# Altium integrated library TI_Logic_Flip-Flop,Latch,Register.IntLib: 2598 symbols (part 35 of 122)
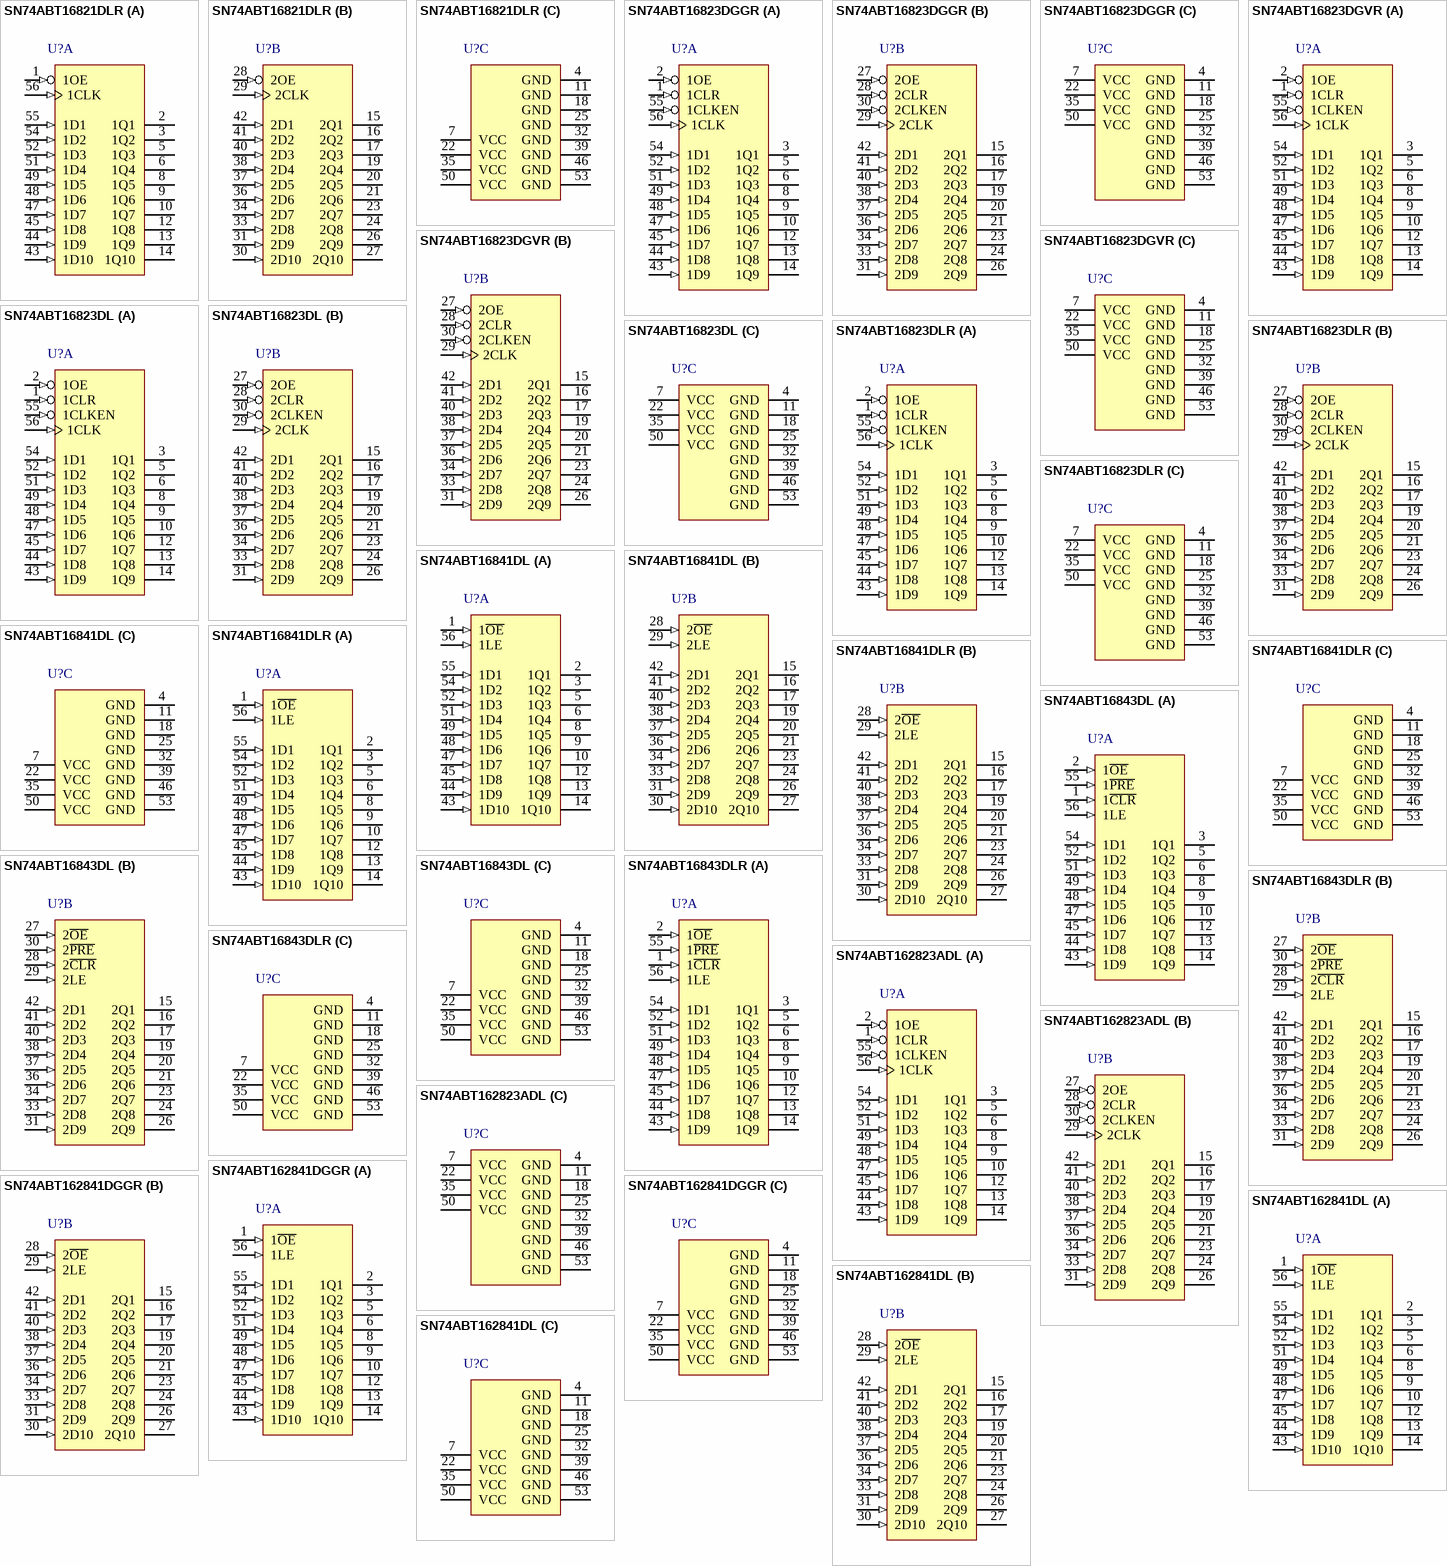
[diagram p173: symbols SN74ABT16821DLR to SN74ABT162841DL]

## SN74ABT16843DL
designator U?
18-Bit Bus-Interface D-Type Latches With 3-State Outputs, DL0056A, TUBE; Generic Part Number: SN74ABT16843; Manufacturer: Texas Instruments; PartNumber: SN74ABT16843DL; VCC(Min)(V): 4.5; VCC(Max)(V): 5.5; Output Type: TTL; Logic: True; Static Current: 42.75; ICC @ Nom Voltage(Max)(mA): 85; Bits(#): 18; F @ Nom Voltage(Max)(Mhz): 150; Rating: Catalog; Technology Family: ABT; Voltage(Nom)(V): 5; Schmitt Trigger: No; Output Drive (IOL/IOH)(Max)(mA): 64/-32; Output Logic: Non-inverted; 3-State Output: Yes; tpd @ Nom Voltage(Max)(ns): 4.8; DatasheetVersion: SCBS223E; PackageReference: DL0056A; Supplier 1: Digi-Key; Supplier Part Number 1: 296-33619-5-ND; Supplier 2: Mouser; Supplier Part Number 2: 595-SN74ABT16843DL; Input Type: TTL; Operating Temperature Range(C): -40 to 85; Code_JEDEC: MO-118; ComponentLink1Description: Manufacturer URL; ComponentLink1URL: http://www.ti.com/; ComponentLink2Description: Datasheet; ComponentLink2URL: http://www.ti.com/lit/ds/symlink/sn74abt16843.pdf; ComponentLink3Description: Package Specification; ComponentLink3URL: http://www.ti.com/lit/ml/mpds491/mpds491.pdf
footprint DL0056A_N (SOP, 56-Leads, Body 7.6x18.5mm, Pitch 0.635mm, IPC Medium Density)
footprint DL0056A_M (SOP, 56-Leads, Body 7.6x18.5mm, Pitch 0.635mm, IPC Low Density)
footprint DL0056A_L (SOP, 56-Leads, Body 7.6x18.5mm, Pitch 0.635mm, IPC High Density)
part A pins: 1 1~{CLR} (in), 2 1~{OE} (in), 3 1Q1 (hiz), 5 1Q2 (hiz), 6 1Q3 (hiz), 8 1Q4 (hiz), 9 1Q5 (hiz), 10 1Q6 (hiz), 12 1Q7 (hiz), 13 1Q8 (hiz), 14 1Q9 (hiz), 43 1D9 (in), 44 1D8 (in), 45 1D7 (in), 47 1D6 (in), 48 1D5 (in), 49 1D4 (in), 51 1D3 (in), 52 1D2 (in), 54 1D1 (in), 55 1~{PRE} (in), 56 1LE (in)
part B pins: 15 2Q1 (hiz), 16 2Q2 (hiz), 17 2Q3 (hiz), 19 2Q4 (hiz), 20 2Q5 (hiz), 21 2Q6 (hiz), 23 2Q7 (hiz), 24 2Q8 (hiz), 26 2Q9 (hiz), 27 2~{OE} (in), 28 2~{CLR} (in), 29 2LE (in), 30 2~{PRE} (in), 31 2D9 (in), 33 2D8 (in), 34 2D7 (in), 36 2D6 (in), 37 2D5 (in), 38 2D4 (in), 40 2D3 (in), 41 2D2 (in), 42 2D1 (in)
part C pins: 4 GND (power), 7 VCC (power), 11 GND (power), 18 GND (power), 22 VCC (power), 25 GND (power), 32 GND (power), 35 VCC (power), 39 GND (power), 46 GND (power), 50 VCC (power), 53 GND (power)

## SN74ABT16843DLR
designator U?
18-Bit Bus-Interface D-Type Latches With 3-State Outputs, DL0056A, LARGE T&R; Generic Part Number: SN74ABT16843; Manufacturer: Texas Instruments; PartNumber: SN74ABT16843DLR; VCC(Min)(V): 4.5; VCC(Max)(V): 5.5; Output Type: TTL; Logic: True; Static Current: 42.75; ICC @ Nom Voltage(Max)(mA): 85; Bits(#): 18; F @ Nom Voltage(Max)(Mhz): 150; Rating: Catalog; Technology Family: ABT; Voltage(Nom)(V): 5; Schmitt Trigger: No; Output Drive (IOL/IOH)(Max)(mA): 64/-32; Output Logic: Non-inverted; 3-State Output: Yes; tpd @ Nom Voltage(Max)(ns): 4.8; DatasheetVersion: SCBS223E; PackageReference: DL0056A; Supplier 1: Digi-Key; Supplier Part Number 1: 296-3932-2-ND; Supplier 2: Digi-Key; Supplier Part Number 2: 296-3932-1-ND; Supplier 3: Digi-Key; Supplier Part Number 3: 296-3932-6-ND; Supplier 4: Mouser; Supplier Part Number 4: 595-SN74ABT16843DLR; Input Type: TTL; Operating Temperature Range(C): -40 to 85; Code_JEDEC: MO-118; ComponentLink1Description: Manufacturer URL; ComponentLink1URL: http://www.ti.com/; ComponentLink2Description: Datasheet; ComponentLink2URL: http://www.ti.com/lit/ds/symlink/sn74abt16843.pdf; ComponentLink3Description: Package Specification; ComponentLink3URL: http://www.ti.com/lit/ml/mpds491/mpds491.pdf
footprint DL0056A_N (SOP, 56-Leads, Body 7.6x18.5mm, Pitch 0.635mm, IPC Medium Density)
footprint DL0056A_M (SOP, 56-Leads, Body 7.6x18.5mm, Pitch 0.635mm, IPC Low Density)
footprint DL0056A_L (SOP, 56-Leads, Body 7.6x18.5mm, Pitch 0.635mm, IPC High Density)
part A pins: 1 1~{CLR} (in), 2 1~{OE} (in), 3 1Q1 (hiz), 5 1Q2 (hiz), 6 1Q3 (hiz), 8 1Q4 (hiz), 9 1Q5 (hiz), 10 1Q6 (hiz), 12 1Q7 (hiz), 13 1Q8 (hiz), 14 1Q9 (hiz), 43 1D9 (in), 44 1D8 (in), 45 1D7 (in), 47 1D6 (in), 48 1D5 (in), 49 1D4 (in), 51 1D3 (in), 52 1D2 (in), 54 1D1 (in), 55 1~{PRE} (in), 56 1LE (in)
part B pins: 15 2Q1 (hiz), 16 2Q2 (hiz), 17 2Q3 (hiz), 19 2Q4 (hiz), 20 2Q5 (hiz), 21 2Q6 (hiz), 23 2Q7 (hiz), 24 2Q8 (hiz), 26 2Q9 (hiz), 27 2~{OE} (in), 28 2~{CLR} (in), 29 2LE (in), 30 2~{PRE} (in), 31 2D9 (in), 33 2D8 (in), 34 2D7 (in), 36 2D6 (in), 37 2D5 (in), 38 2D4 (in), 40 2D3 (in), 41 2D2 (in), 42 2D1 (in)
part C pins: 4 GND (power), 7 VCC (power), 11 GND (power), 18 GND (power), 22 VCC (power), 25 GND (power), 32 GND (power), 35 VCC (power), 39 GND (power), 46 GND (power), 50 VCC (power), 53 GND (power)

## SN74ABT162823ADL
designator U?
18-Bit Bus-Interface Flip-Flops With 3-State Outputs, DL0056A, TUBE; Generic Part Number: SN74ABT162823A; Manufacturer: Texas Instruments; PartNumber: SN74ABT162823ADL; VCC(Min)(V): 4.5; VCC(Max)(V): 5.5; Output Type: TTL; ICC @ Nom Voltage(Max)(mA): 80; Bits(#): 18; F @ Nom Voltage(Max)(Mhz): 150; Rating: Catalog; Technology Family: ABT; Voltage(Nom)(V): 5; Schmitt Trigger: No; Output Drive (IOL/IOH)(Max)(mA): 12/-12; Output Logic: Non-inverted; 3-State Output: Yes; tpd @ Nom Voltage(Max)(ns): 7.5; DatasheetVersion: SCBS666B; PackageReference: DL0056A; Supplier 1: Digi-Key; Supplier Part Number 1: SN74ABT162823ADL-ND; Supplier 2: Mouser; Supplier Part Number 2: 595-SN74ABT162823ADL; Input Type: TTL; Operating Temperature Range(C): -40 to 85; Code_JEDEC: MO-118; ComponentLink1Description: Manufacturer URL; ComponentLink1URL: http://www.ti.com/; ComponentLink2Description: Datasheet; ComponentLink2URL: http://www.ti.com/lit/ds/symlink/sn74abt162823a.pdf; ComponentLink3Description: Package Specification; ComponentLink3URL: http://www.ti.com/lit/ml/mpds491/mpds491.pdf
footprint DL0056A_N (SOP, 56-Leads, Body 7.6x18.5mm, Pitch 0.635mm, IPC Medium Density)
footprint DL0056A_M (SOP, 56-Leads, Body 7.6x18.5mm, Pitch 0.635mm, IPC Low Density)
footprint DL0056A_L (SOP, 56-Leads, Body 7.6x18.5mm, Pitch 0.635mm, IPC High Density)
part A pins: 1 1CLR (in) "Asynchronous Clear Inputs (Active LOW)", 2 1OE (in) "Output Enable Inputs (Active LOW)", 3 1Q1 (hiz) "Three-State Outputs", 5 1Q2 (hiz) "Three-State Outputs", 6 1Q3 (hiz) "Three-State Outputs", 8 1Q4 (hiz) "Three-State Outputs", 9 1Q5 (hiz) "Three-State Outputs", 10 1Q6 (hiz) "Three-State Outputs", 12 1Q7 (hiz) "Three-State Outputs", 13 1Q8 (hiz) "Three-State Outputs", 14 1Q9 (hiz) "Three-State Outputs", 43 1D9 (in) "Data Inputs", 44 1D8 (in) "Data Inputs", 45 1D7 (in) "Data Inputs", 47 1D6 (in) "Data Inputs", 48 1D5 (in) "Data Inputs", 49 1D4 (in) "Data Inputs", 51 1D3 (in) "Data Inputs", 52 1D2 (in) "Data Inputs", 54 1D1 (in) "Data Inputs", 55 1CLKEN (in) "Clock Enable Inputs (Active LOW)", 56 1CLK (in) "Clock Inputs"
part B pins: 15 2Q1 (hiz) "Three-State Outputs", 16 2Q2 (hiz) "Three-State Outputs", 17 2Q3 (hiz) "Three-State Outputs", 19 2Q4 (hiz) "Three-State Outputs", 20 2Q5 (hiz) "Three-State Outputs", 21 2Q6 (hiz) "Three-State Outputs", 23 2Q7 (hiz) "Three-State Outputs", 24 2Q8 (hiz) "Three-State Outputs", 26 2Q9 (hiz) "Three-State Outputs", 27 2OE (in) "Output Enable Inputs (Active LOW)", 28 2CLR (in) "Asynchronous Clear Inputs (Active LOW)", 29 2CLK (in) "Clock Inputs", 30 2CLKEN (in) "Clock Enable Inputs (Active LOW)", 31 2D9 (in) "Data Inputs", 33 2D8 (in) "Data Inputs", 34 2D7 (in) "Data Inputs", 36 2D6 (in) "Data Inputs", 37 2D5 (in) "Data Inputs", 38 2D4 (in) "Data Inputs", 40 2D3 (in) "Data Inputs", 41 2D2 (in) "Data Inputs", 42 2D1 (in) "Data Inputs"
part C pins: 4 GND (power), 7 VCC (power), 11 GND (power), 18 GND (power), 22 VCC (power), 25 GND (power), 32 GND (power), 35 VCC (power), 39 GND (power), 46 GND (power), 50 VCC (power), 53 GND (power)

## SN74ABT162841DGGR
designator U?
20-Bit Bus-Interface D-Type Latches With 3-State Outputs, DGG0056A, LARGE T&R; Generic Part Number: SN74ABT162841; Manufacturer: Texas Instruments; PartNumber: SN74ABT162841DGGR; VCC(Min)(V): 4.5; VCC(Max)(V): 5.5; Output Type: TTL; ICC @ Nom Voltage(Max)(mA): 89; Bits(#): 20; F @ Nom Voltage(Max)(Mhz): 150; Rating: Catalog; Technology Family: ABT; Voltage(Nom)(V): 5; Schmitt Trigger: No; Output Drive (IOL/IOH)(Max)(mA): 12/-12; Output Logic: Non-inverted; 3-State Output: Yes; tpd @ Nom Voltage(Max)(ns): 6; DatasheetVersion: SCBS665C; PackageReference: DGG0056A; Supplier 1: Digi-Key; Supplier Part Number 1: 296-3897-2-ND; Supplier 2: Digi-Key; Supplier Part Number 2: 296-3897-1-ND; Supplier 3: Digi-Key; Supplier Part Number 3: 296-3897-6-ND; Supplier 4: Mouser; Supplier Part Number 4: 595-SNABT162841DGGR; Input Type: TTL; Operating Temperature Range(C): -40 to 85; Code_JEDEC: MO-153; ComponentLink1Description: Manufacturer URL; ComponentLink1URL: http://www.ti.com/; ComponentLink2Description: Datasheet; ComponentLink2URL: http://www.ti.com/lit/ds/symlink/sn74abt162841.pdf; ComponentLink3Description: Package Specification; ComponentLink3URL: http://www.ti.com/lit/ml/mtss003d/mtss003d.pdf
footprint DGG0056A_N (TSSOP, 56-Leads, Body 14.1x6.2mm, Pitch 0.5mm, IPC Medium Density)
footprint DGG0056A_M (TSSOP, 56-Leads, Body 14.1x6.2mm, Pitch 0.5mm, IPC Low Density)
footprint DGG0056A_L (TSSOP, 56-Leads, Body 14.1x6.2mm, Pitch 0.5mm, IPC High Density)
part A pins: 1 1~{OE} (in) "Output Enable Input (Active LOW)", 2 1Q1 (hiz) "Three-State Outputs", 3 1Q2 (hiz) "Three-State Outputs", 5 1Q3 (hiz) "Three-State Outputs", 6 1Q4 (hiz) "Three-State Outputs", 8 1Q5 (hiz) "Three-State Outputs", 9 1Q6 (hiz) "Three-State Outputs", 10 1Q7 (hiz) "Three-State Outputs", 12 1Q8 (hiz) "Three-State Outputs", 13 1Q9 (hiz) "Three-State Outputs", 14 1Q10 (hiz) "Three-State Outputs", 43 1D10 (in) "Data Inputs", 44 1D9 (in) "Data Inputs", 45 1D8 (in) "Data Inputs", 47 1D7 (in) "Data Inputs", 48 1D6 (in) "Data Inputs", 49 1D5 (in) "Data Inputs", 51 1D4 (in) "Data Inputs", 52 1D3 (in) "Data Inputs", 54 1D2 (in) "Data Inputs", 55 1D1 (in) "Data Inputs", 56 1LE (in) "Latch Enable Input (Active HIGH)"
part B pins: 15 2Q1 (hiz) "Three-State Outputs", 16 2Q2 (hiz) "Three-State Outputs", 17 2Q3 (hiz) "Three-State Outputs", 19 2Q4 (hiz) "Three-State Outputs", 20 2Q5 (hiz) "Three-State Outputs", 21 2Q6 (hiz) "Three-State Outputs", 23 2Q7 (hiz) "Three-State Outputs", 24 2Q8 (hiz) "Three-State Outputs", 26 2Q9 (hiz) "Three-State Outputs", 27 2Q10 (hiz) "Three-State Outputs", 28 2~{OE} (in) "Output Enable Input (Active LOW)", 29 2LE (in) "Latch Enable Input (Active HIGH)", 30 2D10 (in) "Data Inputs", 31 2D9 (in) "Data Inputs", 33 2D8 (in) "Data Inputs", 34 2D7 (in) "Data Inputs", 36 2D6 (in) "Data Inputs", 37 2D5 (in) "Data Inputs", 38 2D4 (in) "Data Inputs", 40 2D3 (in) "Data Inputs", 41 2D2 (in) "Data Inputs", 42 2D1 (in) "Data Inputs"
part C pins: 4 GND (power), 7 VCC (power), 11 GND (power), 18 GND (power), 22 VCC (power), 25 GND (power), 32 GND (power), 35 VCC (power), 39 GND (power), 46 GND (power), 50 VCC (power), 53 GND (power)

## SN74ABT162841DL
designator U?
20-Bit Bus-Interface D-Type Latches With 3-State Outputs, DL0056A, TUBE; Generic Part Number: SN74ABT162841; Manufacturer: Texas Instruments; PartNumber: SN74ABT162841DL; VCC(Min)(V): 4.5; VCC(Max)(V): 5.5; Output Type: TTL; ICC @ Nom Voltage(Max)(mA): 89; Bits(#): 20; F @ Nom Voltage(Max)(Mhz): 150; Rating: Catalog; Technology Family: ABT; Voltage(Nom)(V): 5; Schmitt Trigger: No; Output Drive (IOL/IOH)(Max)(mA): 12/-12; Output Logic: Non-inverted; 3-State Output: Yes; tpd @ Nom Voltage(Max)(ns): 6; DatasheetVersion: SCBS665C; PackageReference: DL0056A; Supplier 1: Digi-Key; Supplier Part Number 1: 296-3898-5-ND; Supplier 2: Mouser; Supplier Part Number 2: 595-SN74ABT162841DL; Input Type: TTL; Operating Temperature Range(C): -40 to 85; Code_JEDEC: MO-118; ComponentLink1Description: Manufacturer URL; ComponentLink1URL: http://www.ti.com/; ComponentLink2Description: Datasheet; ComponentLink2URL: http://www.ti.com/lit/ds/symlink/sn74abt162841.pdf; ComponentLink3Description: Package Specification; ComponentLink3URL: http://www.ti.com/lit/ml/mpds491/mpds491.pdf
footprint DL0056A_N (SOP, 56-Leads, Body 7.6x18.5mm, Pitch 0.635mm, IPC Medium Density)
footprint DL0056A_M (SOP, 56-Leads, Body 7.6x18.5mm, Pitch 0.635mm, IPC Low Density)
footprint DL0056A_L (SOP, 56-Leads, Body 7.6x18.5mm, Pitch 0.635mm, IPC High Density)
part A pins: 1 1~{OE} (in) "Output Enable Input (Active LOW)", 2 1Q1 (hiz) "Three-State Outputs", 3 1Q2 (hiz) "Three-State Outputs", 5 1Q3 (hiz) "Three-State Outputs", 6 1Q4 (hiz) "Three-State Outputs", 8 1Q5 (hiz) "Three-State Outputs", 9 1Q6 (hiz) "Three-State Outputs", 10 1Q7 (hiz) "Three-State Outputs", 12 1Q8 (hiz) "Three-State Outputs", 13 1Q9 (hiz) "Three-State Outputs", 14 1Q10 (hiz) "Three-State Outputs", 43 1D10 (in) "Data Inputs", 44 1D9 (in) "Data Inputs", 45 1D8 (in) "Data Inputs", 47 1D7 (in) "Data Inputs", 48 1D6 (in) "Data Inputs", 49 1D5 (in) "Data Inputs", 51 1D4 (in) "Data Inputs", 52 1D3 (in) "Data Inputs", 54 1D2 (in) "Data Inputs", 55 1D1 (in) "Data Inputs", 56 1LE (in) "Latch Enable Input (Active HIGH)"
part B pins: 15 2Q1 (hiz) "Three-State Outputs", 16 2Q2 (hiz) "Three-State Outputs", 17 2Q3 (hiz) "Three-State Outputs", 19 2Q4 (hiz) "Three-State Outputs", 20 2Q5 (hiz) "Three-State Outputs", 21 2Q6 (hiz) "Three-State Outputs", 23 2Q7 (hiz) "Three-State Outputs", 24 2Q8 (hiz) "Three-State Outputs", 26 2Q9 (hiz) "Three-State Outputs", 27 2Q10 (hiz) "Three-State Outputs", 28 2~{OE} (in) "Output Enable Input (Active LOW)", 29 2LE (in) "Latch Enable Input (Active HIGH)", 30 2D10 (in) "Data Inputs", 31 2D9 (in) "Data Inputs", 33 2D8 (in) "Data Inputs", 34 2D7 (in) "Data Inputs", 36 2D6 (in) "Data Inputs", 37 2D5 (in) "Data Inputs", 38 2D4 (in) "Data Inputs", 40 2D3 (in) "Data Inputs", 41 2D2 (in) "Data Inputs", 42 2D1 (in) "Data Inputs"
part C pins: 4 GND (power), 7 VCC (power), 11 GND (power), 18 GND (power), 22 VCC (power), 25 GND (power), 32 GND (power), 35 VCC (power), 39 GND (power), 46 GND (power), 50 VCC (power), 53 GND (power)

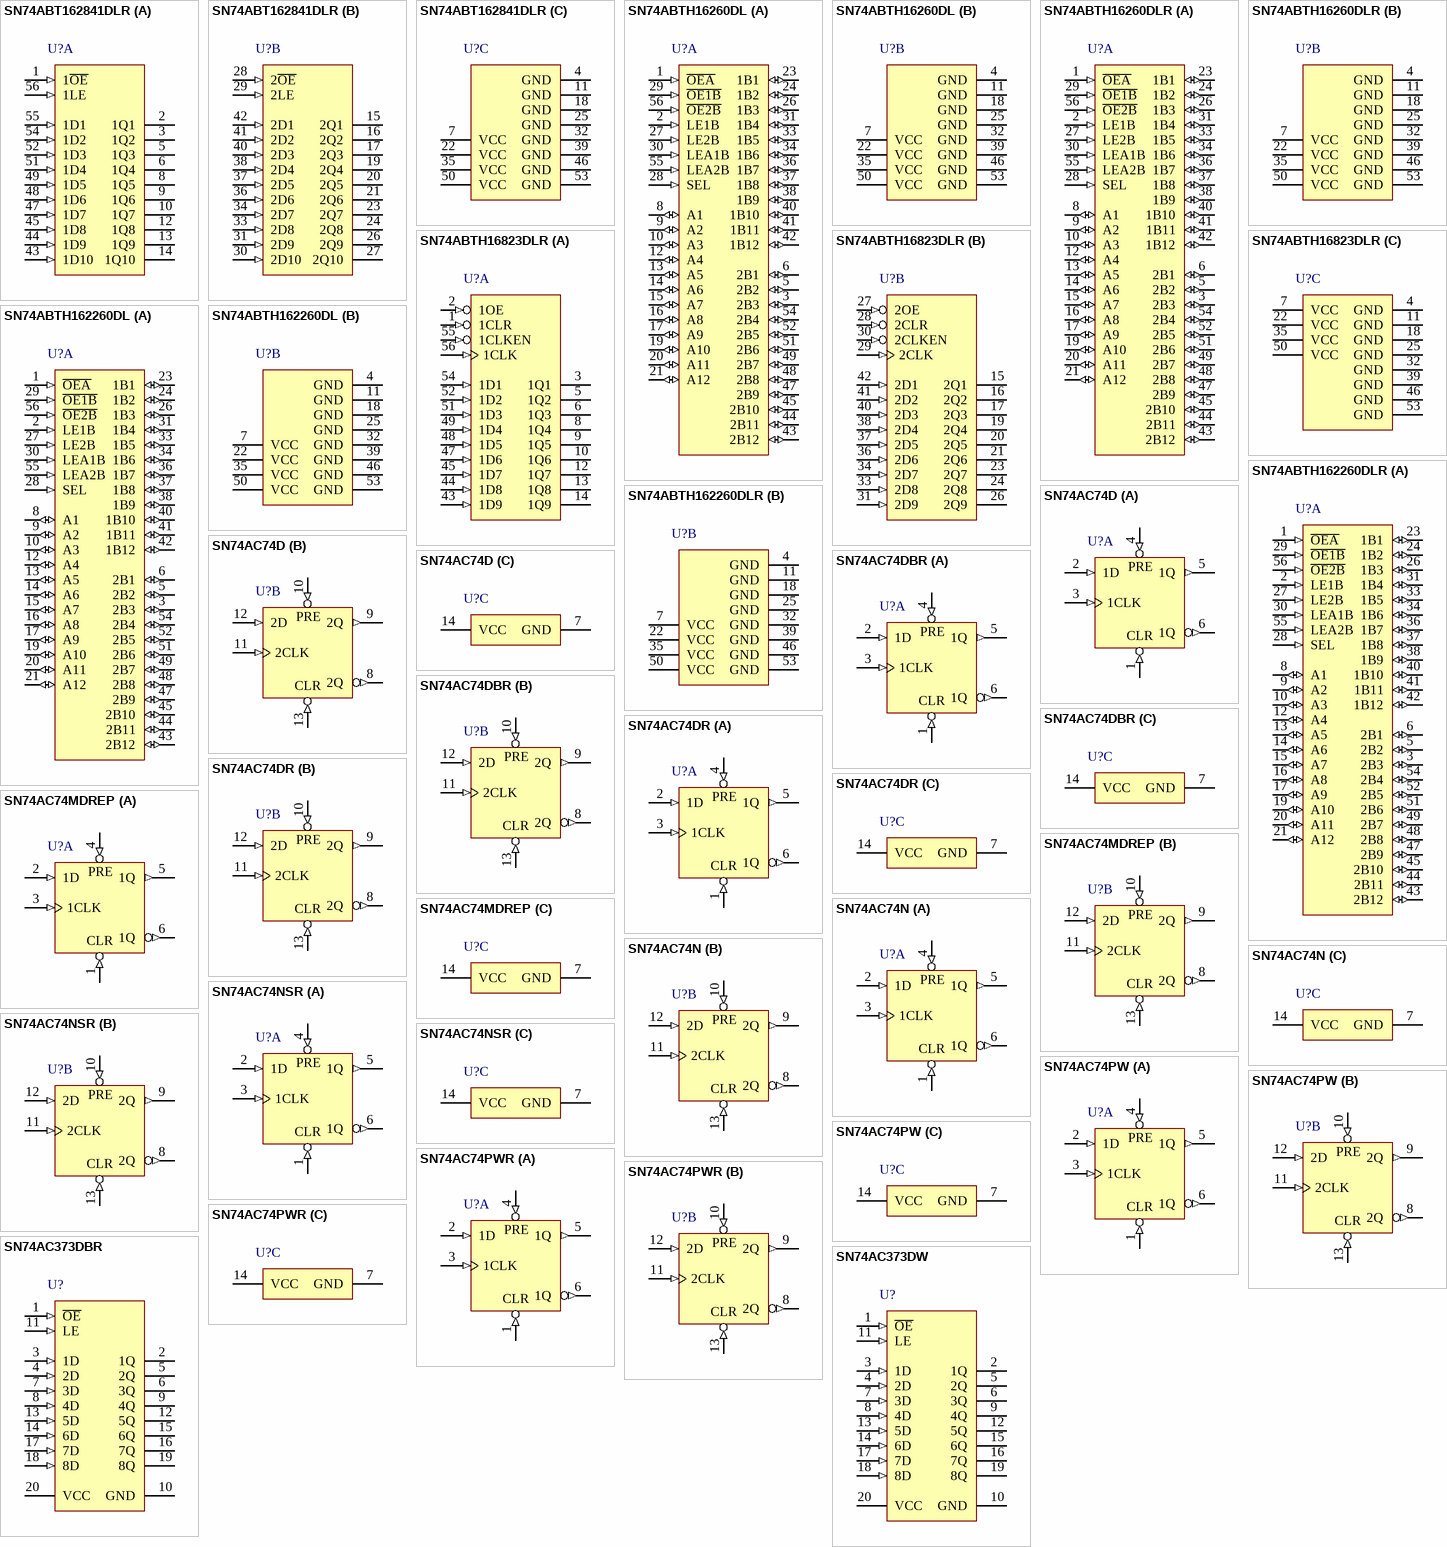
[diagram p47: symbols SN74ABT162841DLR to SN74AC373DW]

## SN74ABT162841DLR
designator U?
20-Bit Bus-Interface D-Type Latches With 3-State Outputs, DL0056A, LARGE T&R; Generic Part Number: SN74ABT162841; Manufacturer: Texas Instruments; PartNumber: SN74ABT162841DLR; VCC(Min)(V): 4.5; VCC(Max)(V): 5.5; Output Type: TTL; ICC @ Nom Voltage(Max)(mA): 89; Bits(#): 20; F @ Nom Voltage(Max)(Mhz): 150; Rating: Catalog; Technology Family: ABT; Voltage(Nom)(V): 5; Schmitt Trigger: No; Output Drive (IOL/IOH)(Max)(mA): 12/-12; Output Logic: Non-inverted; 3-State Output: Yes; tpd @ Nom Voltage(Max)(ns): 6; DatasheetVersion: SCBS665C; PackageReference: DL0056A; Supplier 1: Digi-Key; Supplier Part Number 1: 296-38212-2-ND; Supplier 2: Digi-Key; Supplier Part Number 2: 296-38212-1-ND; Supplier 3: Digi-Key; Supplier Part Number 3: 296-38212-6-ND; Supplier 4: Mouser; Supplier Part Number 4: 595-SN74ABT162841DLR; Input Type: TTL; Operating Temperature Range(C): -40 to 85; Code_JEDEC: MO-118; ComponentLink1Description: Manufacturer URL; ComponentLink1URL: http://www.ti.com/; ComponentLink2Description: Datasheet; ComponentLink2URL: http://www.ti.com/lit/ds/symlink/sn74abt162841.pdf; ComponentLink3Description: Package Specification; ComponentLink3URL: http://www.ti.com/lit/ml/mpds491/mpds491.pdf
footprint DL0056A_N (SOP, 56-Leads, Body 7.6x18.5mm, Pitch 0.635mm, IPC Medium Density)
footprint DL0056A_M (SOP, 56-Leads, Body 7.6x18.5mm, Pitch 0.635mm, IPC Low Density)
footprint DL0056A_L (SOP, 56-Leads, Body 7.6x18.5mm, Pitch 0.635mm, IPC High Density)
part A pins: 1 1~{OE} (in) "Output Enable Input (Active LOW)", 2 1Q1 (hiz) "Three-State Outputs", 3 1Q2 (hiz) "Three-State Outputs", 5 1Q3 (hiz) "Three-State Outputs", 6 1Q4 (hiz) "Three-State Outputs", 8 1Q5 (hiz) "Three-State Outputs", 9 1Q6 (hiz) "Three-State Outputs", 10 1Q7 (hiz) "Three-State Outputs", 12 1Q8 (hiz) "Three-State Outputs", 13 1Q9 (hiz) "Three-State Outputs", 14 1Q10 (hiz) "Three-State Outputs", 43 1D10 (in) "Data Inputs", 44 1D9 (in) "Data Inputs", 45 1D8 (in) "Data Inputs", 47 1D7 (in) "Data Inputs", 48 1D6 (in) "Data Inputs", 49 1D5 (in) "Data Inputs", 51 1D4 (in) "Data Inputs", 52 1D3 (in) "Data Inputs", 54 1D2 (in) "Data Inputs", 55 1D1 (in) "Data Inputs", 56 1LE (in) "Latch Enable Input (Active HIGH)"
part B pins: 15 2Q1 (hiz) "Three-State Outputs", 16 2Q2 (hiz) "Three-State Outputs", 17 2Q3 (hiz) "Three-State Outputs", 19 2Q4 (hiz) "Three-State Outputs", 20 2Q5 (hiz) "Three-State Outputs", 21 2Q6 (hiz) "Three-State Outputs", 23 2Q7 (hiz) "Three-State Outputs", 24 2Q8 (hiz) "Three-State Outputs", 26 2Q9 (hiz) "Three-State Outputs", 27 2Q10 (hiz) "Three-State Outputs", 28 2~{OE} (in) "Output Enable Input (Active LOW)", 29 2LE (in) "Latch Enable Input (Active HIGH)", 30 2D10 (in) "Data Inputs", 31 2D9 (in) "Data Inputs", 33 2D8 (in) "Data Inputs", 34 2D7 (in) "Data Inputs", 36 2D6 (in) "Data Inputs", 37 2D5 (in) "Data Inputs", 38 2D4 (in) "Data Inputs", 40 2D3 (in) "Data Inputs", 41 2D2 (in) "Data Inputs", 42 2D1 (in) "Data Inputs"
part C pins: 4 GND (power), 7 VCC (power), 11 GND (power), 18 GND (power), 22 VCC (power), 25 GND (power), 32 GND (power), 35 VCC (power), 39 GND (power), 46 GND (power), 50 VCC (power), 53 GND (power)

## SN74ABTH16260DL
designator U?
12-Bit To 24-Bit Multiplexed D-Type Latches With 3-State Outputs, DL0056A, TUBE; Generic Part Number: SN74ABTH16260; Manufacturer: Texas Instruments; PartNumber: SN74ABTH16260DL; VCC(Min)(V): 4.5; VCC(Max)(V): 5.5; Output Type: TTL; ICC @ Nom Voltage(Max)(mA): 63; Bits(#): 12; F @ Nom Voltage(Max)(Mhz): 150; Rating: Catalog; Technology Family: ABT; Voltage(Nom)(V): 5; Schmitt Trigger: No; Output Drive (IOL/IOH)(Max)(mA): 64/-32; Output Logic: Non-inverted; 3-State Output: Yes; tpd @ Nom Voltage(Max)(ns): 5.9; DatasheetVersion: SCBS204C; PackageReference: DL0056A; Supplier 1: Digi-Key; Supplier Part Number 1: 296-1446-5-ND; Supplier 2: Mouser; Supplier Part Number 2: 595-SN74ABTH16260DL; Input Type: TTL; Operating Temperature Range(C): -40 to 85; Code_JEDEC: MO-118; ComponentLink1Description: Manufacturer URL; ComponentLink1URL: http://www.ti.com/; ComponentLink2Description: Datasheet; ComponentLink2URL: http://www.ti.com/lit/ds/symlink/sn74abth16260.pdf; ComponentLink3Description: Package Specification; ComponentLink3URL: http://www.ti.com/lit/ml/mpds491/mpds491.pdf
footprint DL0056A_N (SOP, 56-Leads, Body 7.6x18.5mm, Pitch 0.635mm, IPC Medium Density)
footprint DL0056A_M (SOP, 56-Leads, Body 7.6x18.5mm, Pitch 0.635mm, IPC Low Density)
footprint DL0056A_L (SOP, 56-Leads, Body 7.6x18.5mm, Pitch 0.635mm, IPC High Density)
part A pins: 1 ~{OEA} (in), 2 LE1B (in), 3 2B3 (io), 5 2B2 (io), 6 2B1 (io), 8 A1 (io), 9 A2 (io), 10 A3 (io), 12 A4 (io), 13 A5 (io), 14 A6 (io), 15 A7 (io), 16 A8 (io), 17 A9 (io), 19 A10 (io), 20 A11 (io), 21 A12 (io), 23 1B1 (io), 24 1B2 (io), 26 1B3 (io), 27 LE2B (in), 28 SEL (in), 29 ~{OE1B} (in), 30 LEA1B (in), 31 1B4 (io), 33 1B5 (io), 34 1B6 (io), 36 1B7 (io), 37 1B8 (io), 38 1B9 (io), 40 1B10 (io), 41 1B11 (io), 42 1B12 (io), 43 2B12 (io), 44 2B11 (io), 45 2B10 (io), 47 2B9 (io), 48 2B8 (io), 49 2B7 (io), 51 2B6 (io), 52 2B5 (io), 54 2B4 (io), 55 LEA2B (in), 56 ~{OE2B} (in)
part B pins: 4 GND (power), 7 VCC (power), 11 GND (power), 18 GND (power), 22 VCC (power), 25 GND (power), 32 GND (power), 35 VCC (power), 39 GND (power), 46 GND (power), 50 VCC (power), 53 GND (power)

## SN74ABTH16260DLR
designator U?
12-Bit To 24-Bit Multiplexed D-Type Latches With 3-State Outputs, DL0056A, LARGE T&R; Generic Part Number: SN74ABTH16260; Manufacturer: Texas Instruments; PartNumber: SN74ABTH16260DLR; VCC(Min)(V): 4.5; VCC(Max)(V): 5.5; Output Type: TTL; ICC @ Nom Voltage(Max)(mA): 63; Bits(#): 12; F @ Nom Voltage(Max)(Mhz): 150; Rating: Catalog; Technology Family: ABT; Voltage(Nom)(V): 5; Schmitt Trigger: No; Output Drive (IOL/IOH)(Max)(mA): 64/-32; Output Logic: Non-inverted; 3-State Output: Yes; tpd @ Nom Voltage(Max)(ns): 5.9; DatasheetVersion: SCBS204C; PackageReference: DL0056A; Supplier 1: Digi-Key; Supplier Part Number 1: 296-1446-2-ND; Supplier 2: Digi-Key; Supplier Part Number 2: 296-1446-1-ND; Supplier 3: Digi-Key; Supplier Part Number 3: 296-1446-6-ND; Supplier 4: Mouser; Supplier Part Number 4: 595-SN74ABTH16260DLR; Input Type: TTL; Operating Temperature Range(C): -40 to 85; Code_JEDEC: MO-118; ComponentLink1Description: Manufacturer URL; ComponentLink1URL: http://www.ti.com/; ComponentLink2Description: Datasheet; ComponentLink2URL: http://www.ti.com/lit/ds/symlink/sn74abth16260.pdf; ComponentLink3Description: Package Specification; ComponentLink3URL: http://www.ti.com/lit/ml/mpds491/mpds491.pdf
footprint DL0056A_N (SOP, 56-Leads, Body 7.6x18.5mm, Pitch 0.635mm, IPC Medium Density)
footprint DL0056A_M (SOP, 56-Leads, Body 7.6x18.5mm, Pitch 0.635mm, IPC Low Density)
footprint DL0056A_L (SOP, 56-Leads, Body 7.6x18.5mm, Pitch 0.635mm, IPC High Density)
part A pins: 1 ~{OEA} (in), 2 LE1B (in), 3 2B3 (io), 5 2B2 (io), 6 2B1 (io), 8 A1 (io), 9 A2 (io), 10 A3 (io), 12 A4 (io), 13 A5 (io), 14 A6 (io), 15 A7 (io), 16 A8 (io), 17 A9 (io), 19 A10 (io), 20 A11 (io), 21 A12 (io), 23 1B1 (io), 24 1B2 (io), 26 1B3 (io), 27 LE2B (in), 28 SEL (in), 29 ~{OE1B} (in), 30 LEA1B (in), 31 1B4 (io), 33 1B5 (io), 34 1B6 (io), 36 1B7 (io), 37 1B8 (io), 38 1B9 (io), 40 1B10 (io), 41 1B11 (io), 42 1B12 (io), 43 2B12 (io), 44 2B11 (io), 45 2B10 (io), 47 2B9 (io), 48 2B8 (io), 49 2B7 (io), 51 2B6 (io), 52 2B5 (io), 54 2B4 (io), 55 LEA2B (in), 56 ~{OE2B} (in)
part B pins: 4 GND (power), 7 VCC (power), 11 GND (power), 18 GND (power), 22 VCC (power), 25 GND (power), 32 GND (power), 35 VCC (power), 39 GND (power), 46 GND (power), 50 VCC (power), 53 GND (power)

## SN74ABTH16823DLR
designator U?
18-Bit Bus-Interface Flip-Flops With 3-State Outputs, DL0056A, LARGE T&R; Generic Part Number: SN74ABTH16823; Manufacturer: Texas Instruments; PartNumber: SN74ABTH16823DLR; VCC(Min)(V): 4.5; VCC(Max)(V): 5.5; Output Type: TTL; ICC @ Nom Voltage(Max)(mA): 80; Bits(#): 18; F @ Nom Voltage(Max)(Mhz): 150; Rating: Catalog; Technology Family: ABT; Voltage(Nom)(V): 5; Schmitt Trigger: No; Output Drive (IOL/IOH)(Max)(mA): 64/-32; Output Logic: Non-inverted; 3-State Output: Yes; tpd @ Nom Voltage(Max)(ns): 6.8; DatasheetVersion: SCBS664B; PackageReference: DL0056A; Supplier 1: Digi-Key; Supplier Part Number 1: 296-4130-2-ND; Supplier 2: Digi-Key; Supplier Part Number 2: 296-4130-1-ND; Supplier 3: Digi-Key; Supplier Part Number 3: 296-4130-6-ND; Supplier 4: Mouser; Supplier Part Number 4: 595-SN74ABTH16823DLR; Input Type: TTL; Operating Temperature Range(C): -40 to 85; Code_JEDEC: MO-118; ComponentLink1Description: Manufacturer URL; ComponentLink1URL: http://www.ti.com/; ComponentLink2Description: Datasheet; ComponentLink2URL: http://www.ti.com/lit/ds/symlink/sn74abth16823.pdf; ComponentLink3Description: Package Specification; ComponentLink3URL: http://www.ti.com/lit/ml/mpds491/mpds491.pdf
footprint DL0056A_N (SOP, 56-Leads, Body 7.6x18.5mm, Pitch 0.635mm, IPC Medium Density)
footprint DL0056A_M (SOP, 56-Leads, Body 7.6x18.5mm, Pitch 0.635mm, IPC Low Density)
footprint DL0056A_L (SOP, 56-Leads, Body 7.6x18.5mm, Pitch 0.635mm, IPC High Density)
part A pins: 1 1CLR (in) "Asynchronous Clear Inputs (Active LOW)", 2 1OE (in) "Output Enable Inputs (Active LOW)", 3 1Q1 (hiz) "Three-State Outputs", 5 1Q2 (hiz) "Three-State Outputs", 6 1Q3 (hiz) "Three-State Outputs", 8 1Q4 (hiz) "Three-State Outputs", 9 1Q5 (hiz) "Three-State Outputs", 10 1Q6 (hiz) "Three-State Outputs", 12 1Q7 (hiz) "Three-State Outputs", 13 1Q8 (hiz) "Three-State Outputs", 14 1Q9 (hiz) "Three-State Outputs", 43 1D9 (in) "Data Inputs", 44 1D8 (in) "Data Inputs", 45 1D7 (in) "Data Inputs", 47 1D6 (in) "Data Inputs", 48 1D5 (in) "Data Inputs", 49 1D4 (in) "Data Inputs", 51 1D3 (in) "Data Inputs", 52 1D2 (in) "Data Inputs", 54 1D1 (in) "Data Inputs", 55 1CLKEN (in) "Clock Enable Inputs (Active LOW)", 56 1CLK (in) "Clock Inputs"
part B pins: 15 2Q1 (hiz) "Three-State Outputs", 16 2Q2 (hiz) "Three-State Outputs", 17 2Q3 (hiz) "Three-State Outputs", 19 2Q4 (hiz) "Three-State Outputs", 20 2Q5 (hiz) "Three-State Outputs", 21 2Q6 (hiz) "Three-State Outputs", 23 2Q7 (hiz) "Three-State Outputs", 24 2Q8 (hiz) "Three-State Outputs", 26 2Q9 (hiz) "Three-State Outputs", 27 2OE (in) "Output Enable Inputs (Active LOW)", 28 2CLR (in) "Asynchronous Clear Inputs (Active LOW)", 29 2CLK (in) "Clock Inputs", 30 2CLKEN (in) "Clock Enable Inputs (Active LOW)", 31 2D9 (in) "Data Inputs", 33 2D8 (in) "Data Inputs", 34 2D7 (in) "Data Inputs", 36 2D6 (in) "Data Inputs", 37 2D5 (in) "Data Inputs", 38 2D4 (in) "Data Inputs", 40 2D3 (in) "Data Inputs", 41 2D2 (in) "Data Inputs", 42 2D1 (in) "Data Inputs"
part C pins: 4 GND (power), 7 VCC (power), 11 GND (power), 18 GND (power), 22 VCC (power), 25 GND (power), 32 GND (power), 35 VCC (power), 39 GND (power), 46 GND (power), 50 VCC (power), 53 GND (power)

## SN74ABTH162260DL
designator U?
12-Bit to 24-Bit Multiplexed D-Type Latches With Series-Damping Resistors And 3-State Outputs, DL0056A, TUBE; Generic Part Number: SN74ABTH162260; Manufacturer: Texas Instruments; PartNumber: SN74ABTH162260DL; VCC(Min)(V): 4.5; VCC(Max)(V): 5.5; Output Type: TTL; ICC @ Nom Voltage(Max)(mA): 63; Bits(#): 12; F @ Nom Voltage(Max)(Mhz): 150; Rating: Catalog; Technology Family: ABT; Voltage(Nom)(V): 5; Schmitt Trigger: No; Output Drive (IOL/IOH)(Max)(mA): 64/-32; Output Logic: Non-inverted; 3-State Output: Yes; tpd @ Nom Voltage(Max)(ns): 7.2; DatasheetVersion: SCBS240D; PackageReference: DL0056A; Supplier 1: Digi-Key; Supplier Part Number 1: 296-33635-5-ND; Supplier 2: Farnell; Supplier Part Number 2: 1741593; Supplier 3: Mouser; Supplier Part Number 3: 595-SN74ABTH162260DL; Input Type: TTL; Operating Temperature Range(C): -40 to 85; Code_JEDEC: MO-118; ComponentLink1Description: Manufacturer URL; ComponentLink1URL: http://www.ti.com/; ComponentLink2Description: Datasheet; ComponentLink2URL: http://www.ti.com/lit/ds/symlink/sn74abth162260.pdf; ComponentLink3Description: Package Specification; ComponentLink3URL: http://www.ti.com/lit/ml/mpds491/mpds491.pdf
footprint DL0056A_N (SOP, 56-Leads, Body 7.6x18.5mm, Pitch 0.635mm, IPC Medium Density)
footprint DL0056A_M (SOP, 56-Leads, Body 7.6x18.5mm, Pitch 0.635mm, IPC Low Density)
footprint DL0056A_L (SOP, 56-Leads, Body 7.6x18.5mm, Pitch 0.635mm, IPC High Density)
part A pins: 1 ~{OEA} (in), 2 LE1B (in), 3 2B3 (io), 5 2B2 (io), 6 2B1 (io), 8 A1 (io), 9 A2 (io), 10 A3 (io), 12 A4 (io), 13 A5 (io), 14 A6 (io), 15 A7 (io), 16 A8 (io), 17 A9 (io), 19 A10 (io), 20 A11 (io), 21 A12 (io), 23 1B1 (io), 24 1B2 (io), 26 1B3 (io), 27 LE2B (in), 28 SEL (in), 29 ~{OE1B} (in), 30 LEA1B (in), 31 1B4 (io), 33 1B5 (io), 34 1B6 (io), 36 1B7 (io), 37 1B8 (io), 38 1B9 (io), 40 1B10 (io), 41 1B11 (io), 42 1B12 (io), 43 2B12 (io), 44 2B11 (io), 45 2B10 (io), 47 2B9 (io), 48 2B8 (io), 49 2B7 (io), 51 2B6 (io), 52 2B5 (io), 54 2B4 (io), 55 LEA2B (in), 56 ~{OE2B} (in)
part B pins: 4 GND (power), 7 VCC (power), 11 GND (power), 18 GND (power), 22 VCC (power), 25 GND (power), 32 GND (power), 35 VCC (power), 39 GND (power), 46 GND (power), 50 VCC (power), 53 GND (power)

## SN74ABTH162260DLR
designator U?
12-Bit to 24-Bit Multiplexed D-Type Latches With Series-Damping Resistors And 3-State Outputs, DL0056A, LARGE T&R; Generic Part Number: SN74ABTH162260; Manufacturer: Texas Instruments; PartNumber: SN74ABTH162260DLR; VCC(Min)(V): 4.5; VCC(Max)(V): 5.5; Output Type: TTL; ICC @ Nom Voltage(Max)(mA): 63; Bits(#): 12; F @ Nom Voltage(Max)(Mhz): 150; Rating: Catalog; Technology Family: ABT; Voltage(Nom)(V): 5; Schmitt Trigger: No; Output Drive (IOL/IOH)(Max)(mA): 64/-32; Output Logic: Non-inverted; 3-State Output: Yes; tpd @ Nom Voltage(Max)(ns): 7.2; DatasheetVersion: SCBS240D; PackageReference: DL0056A; Supplier 1: Digi-Key; Supplier Part Number 1: 296-1051-2-ND; Supplier 2: Digi-Key; Supplier Part Number 2: 296-1051-1-ND; Supplier 3: Digi-Key; Supplier Part Number 3: 296-1051-6-ND; Supplier 4: Mouser; Supplier Part Number 4: 595-74ABTH162260DLR; Input Type: TTL; Operating Temperature Range(C): -40 to 85; Code_JEDEC: MO-118; ComponentLink1Description: Manufacturer URL; ComponentLink1URL: http://www.ti.com/; ComponentLink2Description: Datasheet; ComponentLink2URL: http://www.ti.com/lit/ds/symlink/sn74abth162260.pdf; ComponentLink3Description: Package Specification; ComponentLink3URL: http://www.ti.com/lit/ml/mpds491/mpds491.pdf
footprint DL0056A_N (SOP, 56-Leads, Body 7.6x18.5mm, Pitch 0.635mm, IPC Medium Density)
footprint DL0056A_M (SOP, 56-Leads, Body 7.6x18.5mm, Pitch 0.635mm, IPC Low Density)
footprint DL0056A_L (SOP, 56-Leads, Body 7.6x18.5mm, Pitch 0.635mm, IPC High Density)
part A pins: 1 ~{OEA} (in), 2 LE1B (in), 3 2B3 (io), 5 2B2 (io), 6 2B1 (io), 8 A1 (io), 9 A2 (io), 10 A3 (io), 12 A4 (io), 13 A5 (io), 14 A6 (io), 15 A7 (io), 16 A8 (io), 17 A9 (io), 19 A10 (io), 20 A11 (io), 21 A12 (io), 23 1B1 (io), 24 1B2 (io), 26 1B3 (io), 27 LE2B (in), 28 SEL (in), 29 ~{OE1B} (in), 30 LEA1B (in), 31 1B4 (io), 33 1B5 (io), 34 1B6 (io), 36 1B7 (io), 37 1B8 (io), 38 1B9 (io), 40 1B10 (io), 41 1B11 (io), 42 1B12 (io), 43 2B12 (io), 44 2B11 (io), 45 2B10 (io), 47 2B9 (io), 48 2B8 (io), 49 2B7 (io), 51 2B6 (io), 52 2B5 (io), 54 2B4 (io), 55 LEA2B (in), 56 ~{OE2B} (in)
part B pins: 4 GND (power), 7 VCC (power), 11 GND (power), 18 GND (power), 22 VCC (power), 25 GND (power), 32 GND (power), 35 VCC (power), 39 GND (power), 46 GND (power), 50 VCC (power), 53 GND (power)

## SN74AC74D
designator U?
Dual Positive-Edge-Triggered D-Type Flip-Flops With Clear and Preset, D0014A, TUBE; Generic Part Number: SN74AC74; Manufacturer: Texas Instruments; PartNumber: SN74AC74D; VCC(Min)(V): 2; VCC(Max)(V): 6; Output Type: CMOS; Output: 3S; ICC @ Nom Voltage(Max)(mA): 0.02; F @ Nom Voltage(Max)(Mhz): 100; Rating: Catalog; Technology Family: AC; Voltage(Nom)(V): 3.3,5; Schmitt Trigger: No; Output Drive (IOL/IOH)(Max)(mA): 24/-24; Output Logic: Inverted,Non-inverted; tpd @ Nom Voltage(Max)(ns): 13.5,10.5; DatasheetVersion: SCAS521F; PackageReference: D0014A; Supplier 1: Digi-Key; Supplier Part Number 1: 296-1063-5-ND; Supplier 2: Farnell; Supplier Part Number 2: 9590307; Supplier 3: Newark; Supplier Part Number 3: 52F2310; Supplier 4: Mouser; Supplier Part Number 4: 595-SN74AC74D; Input Type: CMOS; Bits(#): 2; Operating Temperature Range(C): -40 to 85; 3-State Output: No; Code_JEDEC: MS-012; ComponentLink1Description: Manufacturer URL; ComponentLink1URL: http://www.ti.com/; ComponentLink2Description: Datasheet; ComponentLink2URL: http://www.ti.com/lit/ds/symlink/sn74ac74.pdf; ComponentLink3Description: Package Specification; ComponentLink3URL: http://www.ti.com/lit/ml/mpds177g/mpds177g.pdf
footprint D0014A_N (SOIC, 14-Leads, Body 8.75x4mm, Pitch 1.27mm, IPC Medium Density)
footprint D0014A_M (SOIC, 14-Leads, Body 8.75x4mm, Pitch 1.27mm, IPC Low Density)
footprint D0014A_L (SOIC, 14-Leads, Body 8.75x4mm, Pitch 1.27mm, IPC High Density)
part A pins: 1 1~{CLR} (in), 2 1D (in), 3 1CLK (in), 4 1~{PRE} (in), 5 1Q (out), 6 1Q (out)
part B pins: 8 2Q (out), 9 2Q (out), 10 2~{PRE} (in), 11 2CLK (in), 12 2D (in), 13 2~{CLR} (in)
part C pins: 7 GND (power), 14 VCC (power)
part A text: PRE; CLR
part B text: PRE; CLR

## SN74AC74DBR
designator U?
Dual Positive-Edge-Triggered D-Type Flip-Flops With Clear and Preset, DB0014A, LARGE T&R; Generic Part Number: SN74AC74; Manufacturer: Texas Instruments; PartNumber: SN74AC74DBR; VCC(Min)(V): 2; VCC(Max)(V): 6; Output Type: CMOS; Output: 3S; ICC @ Nom Voltage(Max)(mA): 0.02; F @ Nom Voltage(Max)(Mhz): 100; Rating: Catalog; Technology Family: AC; Voltage(Nom)(V): 3.3,5; Schmitt Trigger: No; Output Drive (IOL/IOH)(Max)(mA): 24/-24; Output Logic: Inverted,Non-inverted; tpd @ Nom Voltage(Max)(ns): 13.5,10.5; DatasheetVersion: SCAS521F; PackageReference: DB0014A; Supplier 1: Digi-Key; Supplier Part Number 1: 296-4341-2-ND; Supplier 2: Digi-Key; Supplier Part Number 2: 296-4341-1-ND; Supplier 3: Digi-Key; Supplier Part Number 3: 296-4341-6-ND; Supplier 4: Mouser; Supplier Part Number 4: 595-SN74AC74DBR; Input Type: CMOS; Bits(#): 2; Operating Temperature Range(C): -40 to 85; 3-State Output: No; Code_JEDEC: MO-150; ComponentLink1Description: Manufacturer URL; ComponentLink1URL: http://www.ti.com/; ComponentLink2Description: Datasheet; ComponentLink2URL: http://www.ti.com/lit/ds/symlink/sn74ac74.pdf; ComponentLink3Description: Package Specification; ComponentLink3URL: http://www.ti.com/lit/ml/msso002e/msso002e.pdf
footprint DB0014A_N (SOP, 14-Leads, Body 5.6x6.5mm, Pitch 0.65mm, IPC Medium Density)
footprint DB0014A_M (SOP, 14-Leads, Body 5.6x6.5mm, Pitch 0.65mm, IPC Low Density)
footprint DB0014A_L (SOP, 14-Leads, Body 5.6x6.5mm, Pitch 0.65mm, IPC High Density)
part A pins: 1 1~{CLR} (in), 2 1D (in), 3 1CLK (in), 4 1~{PRE} (in), 5 1Q (out), 6 1Q (out)
part B pins: 8 2Q (out), 9 2Q (out), 10 2~{PRE} (in), 11 2CLK (in), 12 2D (in), 13 2~{CLR} (in)
part C pins: 7 GND (power), 14 VCC (power)
part A text: PRE; CLR
part B text: PRE; CLR

## SN74AC74DR
designator U?
Dual Positive-Edge-Triggered D-Type Flip-Flops With Clear and Preset, D0014A, LARGE T&R; Generic Part Number: SN74AC74; Manufacturer: Texas Instruments; PartNumber: SN74AC74DR; VCC(Min)(V): 2; VCC(Max)(V): 6; Output Type: CMOS; Output: 3S; ICC @ Nom Voltage(Max)(mA): 0.02; F @ Nom Voltage(Max)(Mhz): 100; Rating: Catalog; Technology Family: AC; Voltage(Nom)(V): 3.3,5; Schmitt Trigger: No; Output Drive (IOL/IOH)(Max)(mA): 24/-24; Output Logic: Inverted,Non-inverted; tpd @ Nom Voltage(Max)(ns): 13.5,10.5; DatasheetVersion: SCAS521F; PackageReference: D0014A; Supplier 1: Digi-Key; Supplier Part Number 1: 296-1063-2-ND; Supplier 2: Digi-Key; Supplier Part Number 2: 296-1063-1-ND; Supplier 3: Digi-Key; Supplier Part Number 3: 296-1063-6-ND; Supplier 4: Farnell; Supplier Part Number 4: 2436774; Supplier 5: Farnell; Supplier Part Number 5: 9853502; Supplier 6: Newark; Supplier Part Number 6: 35K0764; Supplier 7: Newark; Supplier Part Number 7: 28X3761; Supplier 8: Mouser; Supplier Part Number 8: 595-SN74AC74DR; Input Type: CMOS; Bits(#): 2; Operating Temperature Range(C): -40 to 85; 3-State Output: No; Code_JEDEC: MS-012; ComponentLink1Description: Manufacturer URL; ComponentLink1URL: http://www.ti.com/; ComponentLink2Description: Datasheet; ComponentLink2URL: http://www.ti.com/lit/ds/symlink/sn74ac74.pdf; ComponentLink3Description: Package Specification; ComponentLink3URL: http://www.ti.com/lit/ml/mpds177g/mpds177g.pdf
footprint D0014A_N (SOIC, 14-Leads, Body 8.75x4mm, Pitch 1.27mm, IPC Medium Density)
footprint D0014A_M (SOIC, 14-Leads, Body 8.75x4mm, Pitch 1.27mm, IPC Low Density)
footprint D0014A_L (SOIC, 14-Leads, Body 8.75x4mm, Pitch 1.27mm, IPC High Density)
part A pins: 1 1~{CLR} (in), 2 1D (in), 3 1CLK (in), 4 1~{PRE} (in), 5 1Q (out), 6 1Q (out)
part B pins: 8 2Q (out), 9 2Q (out), 10 2~{PRE} (in), 11 2CLK (in), 12 2D (in), 13 2~{CLR} (in)
part C pins: 7 GND (power), 14 VCC (power)
part A text: PRE; CLR
part B text: PRE; CLR

## SN74AC74MDREP
designator U?
Enhanced Product Dual Positive-Edge-Triggered D-Type Flip-Flops With Clear And Preset, D0014A, LARGE T&R; Generic Part Number: SN74AC74-EP; Manufacturer: Texas Instruments; PartNumber: SN74AC74MDREP; VCC(Min)(V): 2; VCC(Max)(V): 6; Output Type: CMOS; Output: 3S; ICC @ Nom Voltage(Max)(mA): 0.04; F @ Nom Voltage(Max)(Mhz): 100; Rating: HiRel Enhanced Product; Technology Family: AC; Voltage(Nom)(V): 3.3,5; Schmitt Trigger: No; Output Drive (IOL/IOH)(Max)(mA): 24/-24; Output Logic: Inverted,Non-inverted; tpd @ Nom Voltage(Max)(ns): 14,10.5; DatasheetVersion: SCAS721; PackageReference: D0014A; Supplier 1: Digi-Key; Supplier Part Number 1: 296-18123-2-ND; Supplier 2: Digi-Key; Supplier Part Number 2: 296-18123-1-ND; Supplier 3: Digi-Key; Supplier Part Number 3: 296-18123-6-ND; Supplier 4: Mouser; Supplier Part Number 4: 595-SN74AC74MDREP; Input Type: CMOS; Bits(#): 2; Operating Temperature Range(C): -55 to 125; 3-State Output: No; Code_JEDEC: MS-012; ComponentLink1Description: Manufacturer URL; ComponentLink1URL: http://www.ti.com/; ComponentLink2Description: Datasheet; ComponentLink2URL: http://www.ti.com/lit/ds/symlink/sn74ac74-ep.pdf; ComponentLink3Description: Package Specification; ComponentLink3URL: http://www.ti.com/lit/ml/mpds177g/mpds177g.pdf
footprint D0014A_N (SOIC, 14-Leads, Body 8.75x4mm, Pitch 1.27mm, IPC Medium Density)
footprint D0014A_M (SOIC, 14-Leads, Body 8.75x4mm, Pitch 1.27mm, IPC Low Density)
footprint D0014A_L (SOIC, 14-Leads, Body 8.75x4mm, Pitch 1.27mm, IPC High Density)
part A pins: 1 1~{CLR} (in), 2 1D (in), 3 1CLK (in), 4 1~{PRE} (in), 5 1Q (out), 6 1Q (out)
part B pins: 8 2Q (out), 9 2Q (out), 10 2~{PRE} (in), 11 2CLK (in), 12 2D (in), 13 2~{CLR} (in)
part C pins: 7 GND (power), 14 VCC (power)
part A text: PRE; CLR
part B text: PRE; CLR

## SN74AC74N
designator U?
Dual Positive-Edge-Triggered D-Type Flip-Flops With Clear and Preset, N0014A, TUBE; Generic Part Number: SN74AC74; Manufacturer: Texas Instruments; PartNumber: SN74AC74N; VCC(Min)(V): 2; VCC(Max)(V): 6; Output Type: CMOS; Output: 3S; ICC @ Nom Voltage(Max)(mA): 0.02; F @ Nom Voltage(Max)(Mhz): 100; Rating: Catalog; Technology Family: AC; Voltage(Nom)(V): 3.3,5; Schmitt Trigger: No; Output Drive (IOL/IOH)(Max)(mA): 24/-24; Output Logic: Inverted,Non-inverted; tpd @ Nom Voltage(Max)(ns): 13.5,10.5; DatasheetVersion: SCAS521F; PackageReference: N0014A; Supplier 1: Digi-Key; Supplier Part Number 1: 296-4342-5-ND; Supplier 2: Farnell; Supplier Part Number 2: 1739865; Supplier 3: Newark; Supplier Part Number 3: 67K1007; Supplier 4: Mouser; Supplier Part Number 4: 595-SN74AC74N; Input Type: CMOS; Bits(#): 2; Operating Temperature Range(C): -40 to 85; 3-State Output: No; Code_JEDEC: MS-001; ComponentLink1Description: Manufacturer URL; ComponentLink1URL: http://www.ti.com/; ComponentLink2Description: Datasheet; ComponentLink2URL: http://www.ti.com/lit/ds/symlink/sn74ac74.pdf; ComponentLink3Description: Package Specification; ComponentLink3URL: http://www.ti.com/lit/ml/mpdi002c/mpdi002c.pdf
footprint N0014A (DIP, 14-Leads, Body 19.7x6.6mm, Pitch 2.54mm)
part A pins: 1 1~{CLR} (in), 2 1D (in), 3 1CLK (in), 4 1~{PRE} (in), 5 1Q (out), 6 1Q (out)
part B pins: 8 2Q (out), 9 2Q (out), 10 2~{PRE} (in), 11 2CLK (in), 12 2D (in), 13 2~{CLR} (in)
part C pins: 7 GND (power), 14 VCC (power)
part A text: PRE; CLR
part B text: PRE; CLR

## SN74AC74NSR
designator U?
Dual Positive-Edge-Triggered D-Type Flip-Flops With Clear and Preset, NS0014A, LARGE T&R; Generic Part Number: SN74AC74; Manufacturer: Texas Instruments; PartNumber: SN74AC74NSR; VCC(Min)(V): 2; VCC(Max)(V): 6; Output Type: CMOS; Output: 3S; ICC @ Nom Voltage(Max)(mA): 0.02; F @ Nom Voltage(Max)(Mhz): 100; Rating: Catalog; Technology Family: AC; Voltage(Nom)(V): 3.3,5; Schmitt Trigger: No; Output Drive (IOL/IOH)(Max)(mA): 24/-24; Output Logic: Inverted,Non-inverted; tpd @ Nom Voltage(Max)(ns): 13.5,10.5; DatasheetVersion: SCAS521F; PackageReference: NS0014A; Supplier 1: Digi-Key; Supplier Part Number 1: 296-13129-2-ND; Supplier 2: Digi-Key; Supplier Part Number 2: 296-13129-1-ND; Supplier 3: Digi-Key; Supplier Part Number 3: 296-13129-6-ND; Supplier 4: Mouser; Supplier Part Number 4: 595-SN74AC74NSR; Input Type: CMOS; Bits(#): 2; Operating Temperature Range(C): -40 to 85; 3-State Output: No; ComponentLink1Description: Manufacturer URL; ComponentLink1URL: http://www.ti.com/; ComponentLink2Description: Datasheet; ComponentLink2URL: http://www.ti.com/lit/ds/symlink/sn74ac74.pdf; ComponentLink3Description: Package Specification; ComponentLink3URL: http://www.ti.com/lit/ml/msop002a/msop002a.pdf
footprint NS0014A_N (SOIC,14-Leads,Body 10.5x5.6mm,Pitch 1.27mm,IPC Medium Density)
footprint NS0014A_M (SOIC,14-Leads,Body 10.5x5.6mm,Pitch 1.27mm,IPC Low Density)
footprint NS0014A_L (SOIC,14-Leads,Body 10.5x5.6mm,Pitch 0.4mm,IPC High Density)
part A pins: 1 1~{CLR} (in), 2 1D (in), 3 1CLK (in), 4 1~{PRE} (in), 5 1Q (out), 6 1Q (out)
part B pins: 8 2Q (out), 9 2Q (out), 10 2~{PRE} (in), 11 2CLK (in), 12 2D (in), 13 2~{CLR} (in)
part C pins: 7 GND (power), 14 VCC (power)
part A text: PRE; CLR
part B text: PRE; CLR

## SN74AC74PW
designator U?
Dual Positive-Edge-Triggered D-Type Flip-Flops With Clear and Preset, PW0014A, TUBE; Generic Part Number: SN74AC74; Manufacturer: Texas Instruments; PartNumber: SN74AC74PW; VCC(Min)(V): 2; VCC(Max)(V): 6; Output Type: CMOS; Output: 3S; ICC @ Nom Voltage(Max)(mA): 0.02; F @ Nom Voltage(Max)(Mhz): 100; Rating: Catalog; Technology Family: AC; Voltage(Nom)(V): 3.3,5; Schmitt Trigger: No; Output Drive (IOL/IOH)(Max)(mA): 24/-24; Output Logic: Inverted,Non-inverted; tpd @ Nom Voltage(Max)(ns): 13.5,10.5; DatasheetVersion: SCAS521F; PackageReference: PW0014A; Supplier 1: Digi-Key; Supplier Part Number 1: 296-33653-5-ND; Supplier 2: Farnell; Supplier Part Number 2: 1607721; Supplier 3: Newark; Supplier Part Number 3: 02H5347; Supplier 4: Mouser; Supplier Part Number 4: 595-SN74AC74PW; Input Type: CMOS; Bits(#): 2; Operating Temperature Range(C): -40 to 85; 3-State Output: No; Code_JEDEC: MO-153; ComponentLink1Description: Manufacturer URL; ComponentLink1URL: http://www.ti.com/; ComponentLink2Description: Datasheet; ComponentLink2URL: http://www.ti.com/lit/ds/symlink/sn74ac74.pdf; ComponentLink3Description: Package Specification; ComponentLink3URL: http://www.ti.com/lit/ml/mpds360/mpds360.pdf
footprint PW0014A_N (SOP, 14-Leads, Body 5.1x4.5mm, Pitch 0.65mm, IPC Medium Density)
footprint PW0014A_M (SOP, 14-Leads, Body 5.1x4.5mm, Pitch 0.65mm, IPC Low Density)
footprint PW0014A_L (SOP, 14-Leads, Body 5.1x4.5mm, Pitch 0.65mm, IPC High Density)
part A pins: 1 1~{CLR} (in), 2 1D (in), 3 1CLK (in), 4 1~{PRE} (in), 5 1Q (out), 6 1Q (out)
part B pins: 8 2Q (out), 9 2Q (out), 10 2~{PRE} (in), 11 2CLK (in), 12 2D (in), 13 2~{CLR} (in)
part C pins: 7 GND (power), 14 VCC (power)
part A text: PRE; CLR
part B text: PRE; CLR

## SN74AC74PWR
designator U?
Dual Positive-Edge-Triggered D-Type Flip-Flops With Clear and Preset, PW0014A, LARGE T&R; Generic Part Number: SN74AC74; Manufacturer: Texas Instruments; PartNumber: SN74AC74PWR; VCC(Min)(V): 2; VCC(Max)(V): 6; Output Type: CMOS; Output: 3S; ICC @ Nom Voltage(Max)(mA): 0.02; F @ Nom Voltage(Max)(Mhz): 100; Rating: Catalog; Technology Family: AC; Voltage(Nom)(V): 3.3,5; Schmitt Trigger: No; Output Drive (IOL/IOH)(Max)(mA): 24/-24; Output Logic: Inverted,Non-inverted; tpd @ Nom Voltage(Max)(ns): 13.5,10.5; DatasheetVersion: SCAS521F; PackageReference: PW0014A; Supplier 1: Digi-Key; Supplier Part Number 1: 296-1064-2-ND; Supplier 2: Digi-Key; Supplier Part Number 2: 296-1064-1-ND; Supplier 3: Digi-Key; Supplier Part Number 3: 296-1064-6-ND; Supplier 4: Farnell; Supplier Part Number 4: 4810260; Supplier 5: Newark; Supplier Part Number 5: 35C2021; Supplier 6: Mouser; Supplier Part Number 6: 595-SN74AC74PWR; Input Type: CMOS; Bits(#): 2; Operating Temperature Range(C): -40 to 85; 3-State Output: No; Code_JEDEC: MO-153; ComponentLink1Description: Manufacturer URL; ComponentLink1URL: http://www.ti.com/; ComponentLink2Description: Datasheet; ComponentLink2URL: http://www.ti.com/lit/ds/symlink/sn74ac74.pdf; ComponentLink3Description: Package Specification; ComponentLink3URL: http://www.ti.com/lit/ml/mpds360/mpds360.pdf
footprint PW0014A_N (SOP, 14-Leads, Body 5.1x4.5mm, Pitch 0.65mm, IPC Medium Density)
footprint PW0014A_M (SOP, 14-Leads, Body 5.1x4.5mm, Pitch 0.65mm, IPC Low Density)
footprint PW0014A_L (SOP, 14-Leads, Body 5.1x4.5mm, Pitch 0.65mm, IPC High Density)
part A pins: 1 1~{CLR} (in), 2 1D (in), 3 1CLK (in), 4 1~{PRE} (in), 5 1Q (out), 6 1Q (out)
part B pins: 8 2Q (out), 9 2Q (out), 10 2~{PRE} (in), 11 2CLK (in), 12 2D (in), 13 2~{CLR} (in)
part C pins: 7 GND (power), 14 VCC (power)
part A text: PRE; CLR
part B text: PRE; CLR

## SN74AC373DBR
designator U?
Octal D-Type Transparent Latches With 3-State Outputs, DB0020A, LARGE T&R; Generic Part Number: SN74AC373; Manufacturer: Texas Instruments; PartNumber: SN74AC373DBR; VCC(Min)(V): 2; VCC(Max)(V): 6; Output Type: CMOS; Logic: True; Static Current: 0.04; Bits(#): 8; F @ Nom Voltage(Max)(Mhz): 100; Rating: Catalog; Technology Family: AC; Voltage(Nom)(V): 3.3,5; Schmitt Trigger: No; Output Drive (IOL/IOH)(Max)(mA): 24/-24; Output Logic: Non-inverted; 3-State Output: Yes; tpd @ Nom Voltage(Max)(ns): 15,10.5; DatasheetVersion: SCAS540D; PackageReference: DB0020A; Supplier 1: Digi-Key; Supplier Part Number 1: 296-4320-2-ND; Supplier 2: Digi-Key; Supplier Part Number 2: 296-4320-1-ND; Supplier 3: Digi-Key; Supplier Part Number 3: 296-4320-6-ND; Supplier 4: Mouser; Supplier Part Number 4: 595-SN74AC373DBR; ICC @ Nom Voltage(Max)(mA): 0.04; Input Type: CMOS; Operating Temperature Range(C): -40 to 85; Code_JEDEC: MO-150; ComponentLink1Description: Manufacturer URL; ComponentLink1URL: http://www.ti.com/; ComponentLink2Description: Datasheet; ComponentLink2URL: http://www.ti.com/lit/ds/symlink/sn74ac373.pdf; ComponentLink3Description: Package Specification; ComponentLink3URL: http://www.ti.com/lit/ml/mpds508/mpds508.pdf
footprint DB0020A_N (SOP, 20-Leads, Body 5.6x7.5mm, Pitch 0.65mm, IPC Medium Density)
footprint DB0020A_M (SOP, 20-Leads, Body 5.6x7.5mm, Pitch 0.65mm, IPC Low Density)
footprint DB0020A_L (SOP, 20-Leads, Body 5.6x7.5mm, Pitch 0.65mm, IPC High Density)
pins: 1 ~{OE} (in) "Output Enable", 2 1Q (hiz) "1Q Output", 3 1D (in) "1D Input", 4 2D (in) "2D Input", 5 2Q (hiz) "2Q Output", 6 3Q (hiz) "3Q Output", 7 3D (in) "3D Input", 8 4D (in) "4D Input", 9 4Q (hiz) "4Q Output", 10 GND (power) "Ground Pin", 11 LE (in) "Latch Enable", 12 5Q (hiz) "5Q Output", 13 5D (in) "5D Input", 14 6D (in) "6D Input", 15 6Q (hiz) "6Q Output", 16 7Q (hiz) "7Q Output", 17 7D (in) "7D Input", 18 8D (in) "8D Input", 19 8Q (hiz) "8Q Output", 20 VCC (power) "Power Pin"

## SN74AC373DW
designator U?
Octal D-Type Transparent Latches With 3-State Outputs, DW0020A, TUBE; Generic Part Number: SN74AC373; Manufacturer: Texas Instruments; PartNumber: SN74AC373DW; VCC(Min)(V): 2; VCC(Max)(V): 6; Output Type: CMOS; Logic: True; Static Current: 0.04; Bits(#): 8; F @ Nom Voltage(Max)(Mhz): 100; Rating: Catalog; Technology Family: AC; Voltage(Nom)(V): 3.3,5; Schmitt Trigger: No; Output Drive (IOL/IOH)(Max)(mA): 24/-24; Output Logic: Non-inverted; 3-State Output: Yes; tpd @ Nom Voltage(Max)(ns): 15,10.5; DatasheetVersion: SCAS540D; PackageReference: DW0020A; Supplier 1: Digi-Key; Supplier Part Number 1: 296-33646-5-ND; Supplier 2: Farnell; Supplier Part Number 2: 9590277; Supplier 3: Newark; Supplier Part Number 3: 76C1408; Supplier 4: Mouser; Supplier Part Number 4: 595-SN74AC373DW; ICC @ Nom Voltage(Max)(mA): 0.04; Input Type: CMOS; Operating Temperature Range(C): -40 to 85; Code_JEDEC: MS-013; ComponentLink1Description: Manufacturer URL; ComponentLink1URL: http://www.ti.com/; ComponentLink2Description: Datasheet; ComponentLink2URL: http://www.ti.com/lit/ds/symlink/sn74ac373.pdf; ComponentLink3Description: Package Specification; ComponentLink3URL: http://www.ti.com/lit/ml/mpds173a/mpds173a.pdf
footprint DW0020A_N (SOIC, 20-Leads, Body 13x7.6mm, Pitch 1.27mm, IPC Medium Density)
footprint DW0020A_M (SOIC, 20-Leads, Body 13x7.6mm, Pitch 1.27mm, IPC Low Density)
footprint DW0020A_L (SOIC, 20-Leads, Body 13x7.6mm, Pitch 1.27mm, IPC High Density)
pins: 1 ~{OE} (in) "Output Enable", 2 1Q (hiz) "1Q Output", 3 1D (in) "1D Input", 4 2D (in) "2D Input", 5 2Q (hiz) "2Q Output", 6 3Q (hiz) "3Q Output", 7 3D (in) "3D Input", 8 4D (in) "4D Input", 9 4Q (hiz) "4Q Output", 10 GND (power) "Ground Pin", 11 LE (in) "Latch Enable", 12 5Q (hiz) "5Q Output", 13 5D (in) "5D Input", 14 6D (in) "6D Input", 15 6Q (hiz) "6Q Output", 16 7Q (hiz) "7Q Output", 17 7D (in) "7D Input", 18 8D (in) "8D Input", 19 8Q (hiz) "8Q Output", 20 VCC (power) "Power Pin"

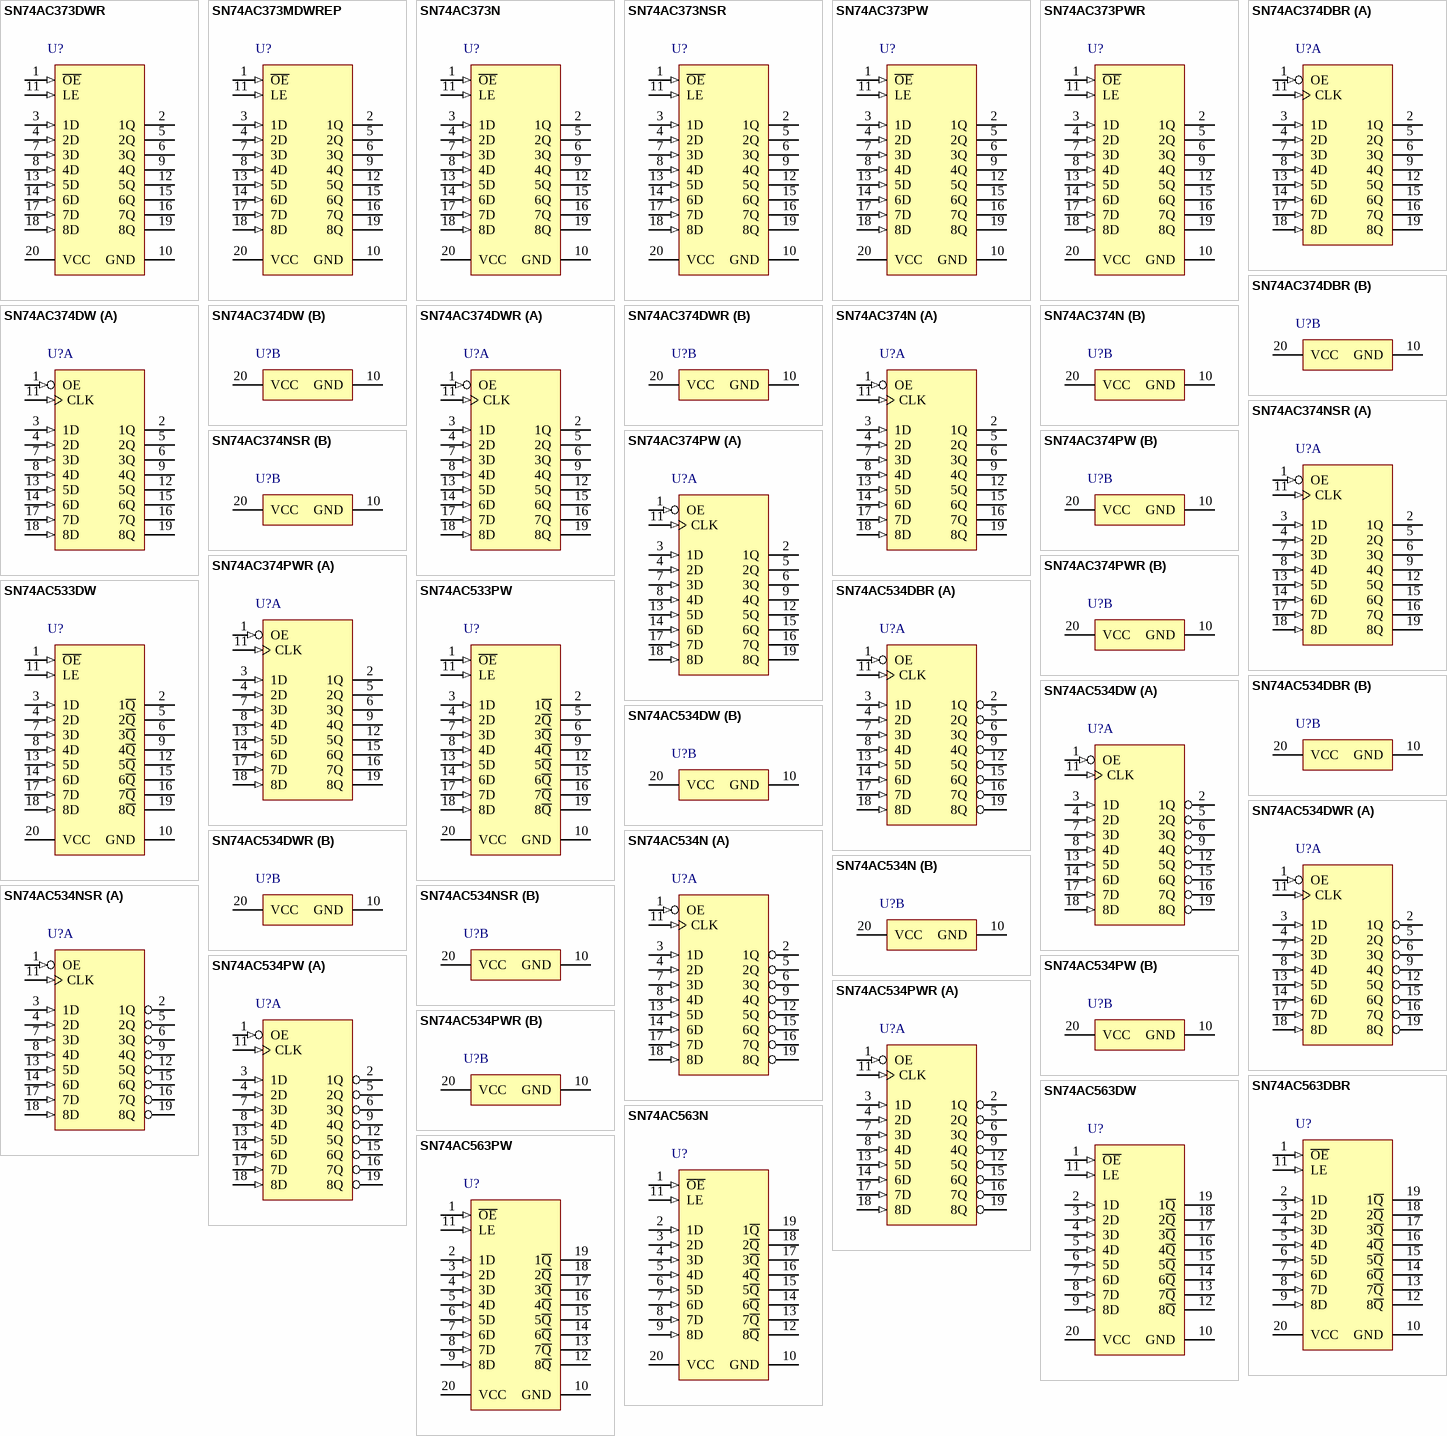
[diagram p48: symbols SN74AC373DWR to SN74AC563PW]

## SN74AC373DWR
designator U?
Octal D-Type Transparent Latches With 3-State Outputs, DW0020A, LARGE T&R; Generic Part Number: SN74AC373; Manufacturer: Texas Instruments; PartNumber: SN74AC373DWR; VCC(Min)(V): 2; VCC(Max)(V): 6; Output Type: CMOS; Logic: True; Static Current: 0.04; Bits(#): 8; F @ Nom Voltage(Max)(Mhz): 100; Rating: Catalog; Technology Family: AC; Voltage(Nom)(V): 3.3,5; Schmitt Trigger: No; Output Drive (IOL/IOH)(Max)(mA): 24/-24; Output Logic: Non-inverted; 3-State Output: Yes; tpd @ Nom Voltage(Max)(ns): 15,10.5; DatasheetVersion: SCAS540D; PackageReference: DW0020A; Supplier 1: Digi-Key; Supplier Part Number 1: 296-4321-2-ND; Supplier 2: Digi-Key; Supplier Part Number 2: 296-4321-1-ND; Supplier 3: Digi-Key; Supplier Part Number 3: 296-4321-6-ND; Supplier 4: Farnell; Supplier Part Number 4: 2499889; Supplier 5: Newark; Supplier Part Number 5: 68Y8003; Supplier 6: Newark; Supplier Part Number 6: 76C1409; Supplier 7: Mouser; Supplier Part Number 7: 595-SN74AC373DWR; ICC @ Nom Voltage(Max)(mA): 0.04; Input Type: CMOS; Operating Temperature Range(C): -40 to 85; Code_JEDEC: MS-013; ComponentLink1Description: Manufacturer URL; ComponentLink1URL: http://www.ti.com/; ComponentLink2Description: Datasheet; ComponentLink2URL: http://www.ti.com/lit/ds/symlink/sn74ac373.pdf; ComponentLink3Description: Package Specification; ComponentLink3URL: http://www.ti.com/lit/ml/mpds173a/mpds173a.pdf
footprint DW0020A_N (SOIC, 20-Leads, Body 13x7.6mm, Pitch 1.27mm, IPC Medium Density)
footprint DW0020A_M (SOIC, 20-Leads, Body 13x7.6mm, Pitch 1.27mm, IPC Low Density)
footprint DW0020A_L (SOIC, 20-Leads, Body 13x7.6mm, Pitch 1.27mm, IPC High Density)
pins: 1 ~{OE} (in) "Output Enable", 2 1Q (hiz) "1Q Output", 3 1D (in) "1D Input", 4 2D (in) "2D Input", 5 2Q (hiz) "2Q Output", 6 3Q (hiz) "3Q Output", 7 3D (in) "3D Input", 8 4D (in) "4D Input", 9 4Q (hiz) "4Q Output", 10 GND (power) "Ground Pin", 11 LE (in) "Latch Enable", 12 5Q (hiz) "5Q Output", 13 5D (in) "5D Input", 14 6D (in) "6D Input", 15 6Q (hiz) "6Q Output", 16 7Q (hiz) "7Q Output", 17 7D (in) "7D Input", 18 8D (in) "8D Input", 19 8Q (hiz) "8Q Output", 20 VCC (power) "Power Pin"